# EAGLE library part PT2399 (library EurorackModularParts)
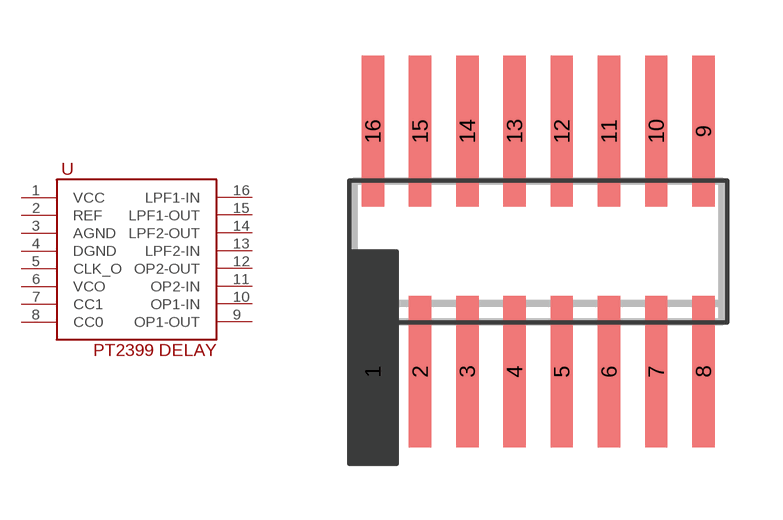
[diagram p18: symbol with the pads of SO16; footprint SO16]

Designator prefix -

## PT2399  [SO16]
1  VCC
2  REF
3  AGND
4  DGND
5  CLK_O
6  VCO
7  CC1
8  CC0
9  OP1-OUT
10  OP1-IN
11  OP2-IN
12  OP2-OUT
13  LPF2-IN
14  LPF2-OUT
15  LPF1-OUT
16  LPF1-IN

## Footprint SO16 (pad centres in mm)
smd 0.6 x 4.064: 1 -4.445,-3.235; 2 -3.175,-3.235; 3 -1.905,-3.235; 4 -0.635,-3.235; 5 0.635,-3.235; 6 1.905,-3.235; 7 3.175,-3.235; 8 4.445,-3.235; 9 4.445,3.235; 10 3.175,3.235; 11 1.905,3.235; 12 0.635,3.235; 13 -0.635,3.235; 14 -1.905,3.235; 15 -3.175,3.235; 16 -4.445,3.235